# Altium schematic symbol library Resistors-potenciometers.SchLib: 402 symbols (part 1 of 5)
Pins are listed as number, name and electrical type; pins without a type are passive.

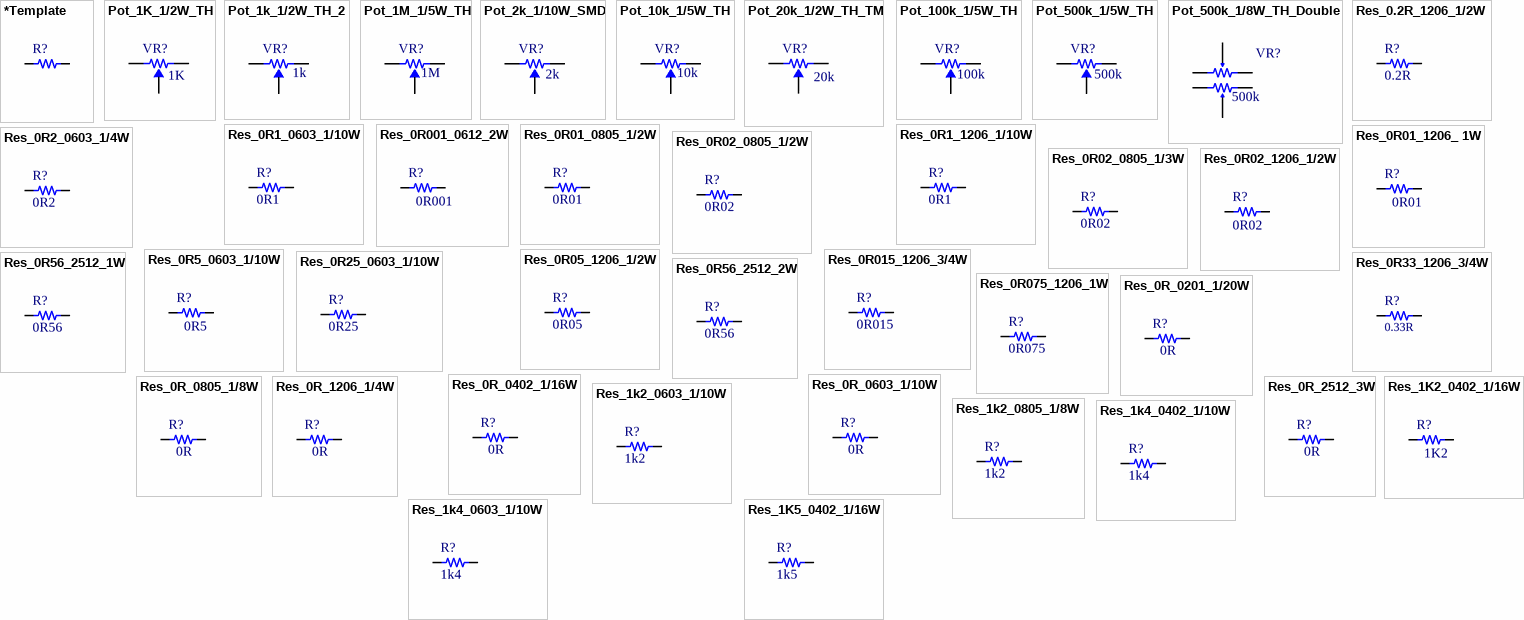
[diagram p0: symbols *Template to Res_1K5_0402_1/16W]

## *Template
designator R?
Reel Stock: N/A; Last modified by: J.Jaramillo; Last modified date: 20240310
pins: 1, 2

## Pot_1K_1/2W_TH
designator VR?, comment value 1K  (hidden comment: 1K 1/2W)
TRIMMER 1K OHM 0.5W PC PIN TOP; Manufacturer: Bourns Inc.; Manufacturer Part Number: 3296W-1-102LF; Supplier 1: Digi-Key; Supplier Part Number 1: 3296W-102LF-ND; Reel Stock: N/A; Last modified by: J.Jaramillo; Last modified date: 20240310; ComponentLink1Description: Digi-Key; ComponentLink1URL: https://www.digikey.com/en/products/detail/bourns-inc/3296W-1-102LF/1088044
footprint Pot_3x1_2.54mm_TH_TM (/20201120/C-A.Serna.A)
pins: 1 (power), 2, 3 (power)

## Pot_1k_1/2W_TH_2
designator VR?, comment value 1k  (hidden comment: 1k 1/2W)
TRIMMER 1K OHM 0.5W PC PIN TOP; Manufacturer: Nidec Copal Electronics; Manufacturer Part Number: CT6EW102; Supplier 1: Digi-Key; Supplier Part Number 1: CT6EW102-ND; Reel Stock: N/A; Last modified by: J.Jaramillo; Last modified date: 20240310; ComponentLink1Description: Digi-Key; ComponentLink1URL: https://www.digikey.com/en/products/detail/nidec-copal-electronics/CT6EW102/738333?s=N4IgTCBcDaIMIBUBsBRA6gRgAwQLoF8g
footprint POT_5X5MM_TH (20220330 / E.Naranjo)
pins: 1 (power), 2, 3 (power)

## Pot_1M_1/5W_TH
designator VR?, comment value 1M  (hidden comment: 1M 1/5W)
POT 1M OHM 1/5W PLASTIC LINEAR; Manufacturer: TT Electronics/BI; Manufacturer Part Number: P160KN-0QD15B1MEG; Reel Stock: N/A; Last modified by: J.Jaramillo; Last modified date: 20240310; ComponentLink1Description: Digi-key; ComponentLink1URL: https://www.digikey.com/products/en?keywords=P160KN-0QD15B1MEG; Supplier 1: Digi-Key; Supplier Part Number 1: 987-1667-ND
footprint Pot_3x1_5mm_TH (20190528/ V-A.Patino)
pins: 1 (power), 2, 3 (power)

## Pot_2k_1/10W_SMD
designator VR?, comment value 2k  (hidden comment: 2k 1/10W)
TRIMMER 2K OHM 0.1W J LEAD TOP; Manufacturer: Bourns Inc.; Manufacturer Part Number: TC33X-2-202E; Reel Stock: N/A; Last modified by: J.Jaramillo; Last modified date: 20240310; ComponentLink1Description: Digi-key; ComponentLink1URL: https://www.digikey.com/en/products/detail/bourns-inc/TC33X-2-202E/612860; Supplier 1: Digi-Key; Supplier Part Number 1: TC33X-202ECT-ND
footprint Pot_3.8x3.6x1.2MM_SMD (/20201126/C-D Viveros)
pins: 1 (power), 2, 3 (power)

## Pot_10k_1/5W_TH
designator VR?, comment value 10k  (hidden comment: 10k 1/5W)
POT 10K OHM 1/5W PLASTIC LINEAR; Manufacturer: TT Electronics/BI; Manufacturer Part Number: P160KN-0QC15B10K; Reel Stock: N/A; Last modified by: J.Jaramillo; Last modified date: 20240310; ComponentLink1Description: Digi-key; ComponentLink1URL: https://www.digikey.com/products/en?keywords=P160KN-0QC15B10K; Supplier 1: Digi-Key; Supplier Part Number 1: 987-1301-ND
footprint Pot_3x1_5mm_TH (20190327/ V-A.Patino)
pins: 1 (power), 2, 3 (power)

## Pot_20k_1/2W_TH_TM
designator VR?, comment value 20k  (hidden comment: 20k 1/2W)
TRIMMER 20K OHM 0.5W PC PIN TOP; Manufacturer: Bourns Inc.; Manufacturer Part Number: 3296W-1-203LF; Reel Stock: N/A; Last modified by: J.Jaramillo; Last modified date: 20240310; Supplier 1: Digi-Key; Supplier Part Number 1: 3296W-203LF-ND
footprint Pot_3x1_2.54mm_TH_TM
pins: 1 (power), 2, 3 (power)

## Pot_100k_1/5W_TH
designator VR?, comment value 100k  (hidden comment: 100k 1/5W)
POT 100K OHM 1/5W PLASTIC LINEAR; Manufacturer: TT Electronics/BI; Manufacturer Part Number: P160KN-0QC15B100K; Reel Stock: N/A; Last modified by: J.Jaramillo; Last modified date: 20240310; ComponentLink1Description: Digi-key; ComponentLink1URL: https://www.digikey.com/products/en?keywords=987-1300-ND; Supplier 1: Digi-Key; Supplier Part Number 1: 987-1300-ND
footprint Pot_3x1_5mm_TH (20190516/ V-A.Patino)
pins: 1 (power), 2, 3 (power)

## Pot_500k_1/5W_TH
designator VR?, comment value 500k  (hidden comment: 500k 1/5W)
POT 500K OHM 1/5W PLASTIC LINEAR; Manufacturer: TT Electronics/BI; Manufacturer Part Number: P160KN-0QC15B500K; Reel Stock: N/A; Last modified by: J.Jaramillo; Last modified date: 20240310; ComponentLink1Description: Digi-key; ComponentLink1URL: https://www.digikey.com/products/en?keywords=987-1304-ND; Supplier 1: Digi-Key; Supplier Part Number 1: 987-1304-ND
footprint Pot_3x1_5mm_TH (20190516/ V-A.Patino)
pins: 1 (power), 2, 3 (power)

## Pot_500k_1/8W_TH_Double
designator VR?, comment value 500k  (hidden comment: 500k 1/8W)
POT 500K OHM 1/8W CARBON LINEAR; Manufacturer: Bourns Inc.; Manufacturer Part Number: PDB182-K420K-504B; Supplier 1: Digi-Key; Supplier Part Number 1: PDB182-K420K-504B-ND; Reel Stock: N/A; Last modified by: J.Jaramillo; Last modified date: 20240310; ComponentLink1Description: Digi-Key; ComponentLink1URL: https://www.digikey.com/products/en?keywords=PDB182-K420K-504B
footprint POT_6X2_5mm_TH (20190617/ M-X.Arias)
pins: 1, 2, 3, 4, 5, 6

## Res_0.2R_1206_1/2W
designator R?, comment value 0.2R  (hidden comment: 0.2R 1/2W)
RES 0.2 OHM 0.5% 1/2W 1206; Manufacturer: Vishay Dale; Manufacturer Part Number: RCWE1206R200DKEA; Supplier 1: Digi-Key; Supplier Part Number 1: RCWE1206R200DKEA-ND; Reel Stock: N/A; Last modified by: J.Jaramillo; Last modified date: 20240310; ComponentLink1Description: Digi-Key; ComponentLink1URL: https://www.digikey.com/en/products/detail/vishay-dale/RCWE1206R200DKEA/5767266?s=N4IgjCBcpgbFoDGUBmBDANgZwKYBoQB7KAbRAA4BmAdjAAYQBdAgBwBcoQBlNgJwEsAdgHMQAXwIAmOuQCsCEMkjps%2BIqRDS6AAgC2AeQAWurE1YdIIAKqD%2BbfSgCyONFgCuvHOImaNn04xiQA
footprint 1206 (3216 metric/ 20190327/ V-A.Patino)
pins: 1, 2

## Res_0R1_0603_1/10W
designator R?, comment value 0R1  (hidden comment: 0.1R 1/10W)
RES 0.1 OHM 5% 1/10W 0603; Manufacturer: Panasonic Electronic Components; Manufacturer Part Number: ERJ-3RSJR10V; Supplier 1: Digi-key; Supplier Part Number 1: P.10AHCT-ND; Reel Stock: N/A; Last modified by: J.Jaramillo; Last modified date: 20240310; ComponentLink1Description: Digi-Key; ComponentLink1URL: https://www.digikey.com/en/products/detail/panasonic-electronic-components/ERJ-3RSJR10V/308026
footprint 0603 (1608 Metric / 20190222 / N-A.Potosi)
pins: 1, 2

## Res_0R001_0612_2W
designator R?, comment value 0R001  (hidden comment: 1mOhm  2W)
RES 0.001 OHM 2.0 W 1% 0612 SMD; Manufacturer: Vishay Dale; Manufacturer Part Number: WFCP06121L000FE66; Supplier 1: Digi-Key; Supplier Part Number 1: 541-WFCP06121L000FE66CT-ND; Reel Stock: N/A; Last modified by: J.Jaramillo; Last modified date: 20240310; ComponentLink1Description: Digi-Key; ComponentLink1URL: https://www.digikey.com/en/products/detail/vishay-dale/WFCP06121L000FE66/15908401
footprint 0612 (3216Metric / 20101029/ V-A.Patino)
pins: 1, 2

## Res_0R01_0805_1/2W
designator R?, comment value 0R01  (hidden comment: 0R01 1/2W)
RES 0.01 OHM 1% 1/2W 0805; Manufacturer: Bourns Inc.; Manufacturer Part Number: CFN0805-FX-R010ELF; Supplier 1: Digi-Key; Supplier Part Number 1: CFN0805-FX-R010ELFCT-ND; Reel Stock: N/A; Last modified by: J.Jaramillo; Last modified date: 20240310; ComponentLink1Description: Digi-Key; ComponentLink1URL: https://www.digikey.com/en/products/detail/bourns-inc/CFN0805-FX-R010ELF/10061123?s=N4IgTCBcDaIMIDEByAGAHCgrAWgQDWwCUUBGFAUQBkEQBdAXyA
footprint 0805 (2012 metric/ 20190327 / V-A.Patino)
pins: 1, 2

## Res_0R1_1206_1/10W
designator R?, comment value 0R1  (hidden comment: 0.1R 1/10W)
RES 0.1 OHM 1% 1W 1206; Manufacturer: Panasonic Electronic Components; Manufacturer Part Number: ERJ-8BWFR100V; Supplier 1: Digi-key; Supplier Part Number 1: P.10AUCT-ND; Reel Stock: N/A; Last modified by: J.Jaramillo; Last modified date: 20240310; ComponentLink1Description: Digi-Key; ComponentLink1URL: https://www.digikey.com/en/products/detail/panasonic-electronic-components/ERJ-8BWFR100V/1711656?s=N4IgTCBcDaIKICUBSAOAQgdQGIIIwAZ8A1EAXQF8g
footprint 1206 (3216 metric/ 20190327/ V-A.Patino)
pins: 1, 2

## Res_0R01_1206_ 1W
designator R?, comment 0R01
RES 10mΩ ±1% 1W 1206; Manufacturer: FOJAN; Manufacturer Part Number: FRM121WFR010TM; Supplier 1: LCSC; Supplier Part Number 1: C7467248; Reel Stock: N/A; Last modified by: J.Jaramillo; Last modified date: 070726; ComponentLink1Description: LCSC; ComponentLink1URL: https://www.lcsc.com/product-detail/C7467248.html?s_z=n_q_t_resistor%252010m&spm=wm.fly.bg.0.xh___wm.ssy.tc.4.tz&lcsc_vid=QlVWAwYAFgVeVVReQwReXlYDEQcLUgVSRQQLU1NREwMxVlNeRFVeVl1UR1NXUzsOAxUeFF5JWBYZEEoKFBINSQcJGk4eFQsCAgIaSgADAwAHC0slRVFbX1NeQ08GEwkK; ComponentLink2Description: Datasheet; ComponentLink2URL: https://www.lcsc.com/datasheet/C7467248.pdf?spm=wm.sxq.inf.ggs___wm.fly.bg.0.xh&lcsc_vid=QlVWAwYAFgVeVVReQwReXlYDEQcLUgVSRQQLU1NREwMxVlNeRFVeVl1UR1NXUzsOAxUeFF5JWBYZEEoKFBINSQcJGk4eFQsCAgIaSgADAwAHC0slRVFbX1NeQ08GEwkK; Value: 0R01
footprint 1206 (3216 metric/ 20190327/ V-A.Patino)
pins: 1, 2

## Res_0R2_0603_1/4W
designator R?, comment value 0R2  (hidden comment: 0R2 1/4W)
RES 0.2 OHM 1% 1/4W 0603; Manufacturer Part Number: UCR03EVPFLR200; Manufacturer: Rohm Semiconductor; ComponentLink1URL: https://www.digikey.com/en/products/detail/rohm-semiconductor/UCR03EVPFLR200/4053593?s=N4IgTCBcDaIEoAkCyBGMAWArAYQCoFoA5AERAF0BfIA; Reel Stock: N/A; Last modified by: J.Jaramillo; Last modified date: 20240310; ComponentLink1Description: Digi-key; Supplier Part Number 1: RHM1245CT-ND; Supplier 1: Digi-Key
footprint 0603
pins: 1, 2

## Res_0R02_0805_1/2W
designator R?, comment value 0R02  (hidden comment: 0R02 1/2W)
RES 0.02 OHM 5% 1/2W 0805; Manufacturer: Samsung Electro-Mechanics; Manufacturer Part Number: ERJ-6CWJR020V; Reel Stock: N/A; Last modified by: J.Jaramillo; Last modified date: 20240310; ComponentLink1Description: Digi-key; ComponentLink1URL: https://www.digikey.com/en/products/detail/panasonic-electronic-components/ERJ-6CWJR020V/6004298; Supplier 1: Digi-Key; Supplier Part Number 1: P19215CT-ND
footprint 0805
footprint 0805_M (2012 Metric / 20200129/ V-A.Patino)
pins: 1, 2

## Res_0R02_0805_1/3W
designator R?, comment value 0R02  (hidden comment: 0R02 1/3W)
RES 0.02 OHM 1% 1/3W 0805; Manufacturer: Samsung Electro-Mechanics; Manufacturer Part Number: RU2012FR020CS; Reel Stock: N/A; Last modified by: J.Jaramillo; Last modified date: 20240310; ComponentLink1Description: Digi-key; ComponentLink1URL: https://www.digikey.com/products/en?keywords=1276-6157-1-ND; Supplier 1: Digi-Key; Supplier Part Number 1: 1276-6157-1-ND
footprint 0805
footprint 0805_M (2012 Metric / 20200129/ V-A.Patino)
pins: 1, 2

## Res_0R02_1206_1/2W
designator R?, comment value 0R02  (hidden comment: 0R02 1/2W)
RES 20M OHM 1% 1/2W 1206; Manufacturer: Ohmite; Manufacturer Part Number: L4T12FR020FER; Supplier 1: Digi-Key; Supplier Part Number 1: 273-L4T12FR020FERCT-ND; Reel Stock: N/A; Last modified by: J.Jaramillo; Last modified date: 20240310; ComponentLink1Description: Digi-Key; ComponentLink1URL: https://www.digikey.com/en/products/detail/ohmite/L4T12FR020FER/10385197
footprint 1206 (3216 metric/ 20190327/ V-A.Patino)
pins: 1, 2

## Res_0R5_0603_1/10W
designator R?, comment value 0R5  (hidden comment: 0R5 1/10W)
500mΩ ±1% 100mW 0603 Thick Film Resistor; Manufacturer: UNI-ROYAL; Manufacturer Part Number: 0603WAF500LT5E; Supplier 1: LCSC; Supplier Part Number 1: C45312; Reel Stock: N/A; Last modified by: J.Jaramillo; Last modified date: 20240310; ComponentLink1Description: LCSC; ComponentLink1URL: https://www.lcsc.com/product-detail/C45312.html?s_z=n_Resistor%25200R5%25200603%25201%2525; ComponentLink2Description: Datasheet; ComponentLink2URL: https://www.lcsc.com/datasheet/C45312.pdf
footprint 0603 (1608 Metric / 20190222 / N-A.Potosi)
pins: 1, 2

## Res_0R05_1206_1/2W
designator R?, comment value 0R05  (hidden comment: 0R05 1/2W)
RES 0.05 OHM 1% 1/2W 1206; Manufacturer: Stackpole Electronics Inc; Manufacturer Part Number: CSR1206FT50L0; Reel Stock: N/A; Last modified by: J.Jaramillo; Last modified date: 20240310; ComponentLink1Description: Digi-key; ComponentLink1URL: https://www.digikey.com/products/en/resistors/chip-resistor-surface-mount/52?k=CSR1206FT50L0&k=&pkeyword=CSR1206FT50L0&sv=0&pv7=2&sf=0&quantity=&ColumnSort=0&page=1&pageSize=25; Supplier 1: Digi-Key; Supplier Part Number 1: CSR1206FT50L0CT-ND
footprint 1206 (3216 metric/ 20190327/ V-A.Patino)
pins: 1, 2

## Res_0R015_1206_3/4W
designator R?, comment value 0R015  (hidden comment: 0R015 3/4W)
RES 0.015 OHM 1% 3/4W 1206; Manufacturer: Susumu; Manufacturer Part Number: KRL1632E-M-R015-F-T5; Supplier 1: Digi-Key; Supplier Part Number 1: 408-1572-1-ND; Reel Stock: N/A; Last modified by: J.Jaramillo; Last modified date: 20240310; ComponentLink1Description: Digi-Key; ComponentLink1URL: https://www.digikey.com/en/products/detail/susumu/KRL1632E-M-R015-F-T5/3737998
footprint 1206 (3216 metric/ 20190327/ V-A.Patino)
pins: 1, 2

## Res_0R25_0603_1/10W
designator R?, comment value 0R25  (hidden comment: 0R25 1/10W)
RES 0.25 OHM 1% 1/10W 0603; Manufacturer Part Number: RL0603FR-070R25L; Manufacturer: Rohm Semiconductor; ComponentLink1URL: https://www.digikey.com/en/products/detail/yageo/RL0603FR-070R25L/5924891; Reel Stock: N/A; Last modified by: J.Jaramillo; Last modified date: 20240310; ComponentLink1Description: Digi-key; Supplier Part Number 1: 13-RL0603FR-070R25LCT-ND; Supplier 1: Digi-Key
footprint 0603
pins: 1, 2

## Res_0R33_1206_3/4W
designator R?, comment value 0.33R  (hidden comment: 0R33 3/4W)
RES 0.33 OHM 1% 3/4W 1206; Manufacturer: Susumu; Manufacturer Part Number: KRL1632E-M-R330-F-T5; Reel Stock: N/A; Last modified by: J.Jaramillo; Last modified date: 20240310; ComponentLink1Description: Digi-key; ComponentLink1URL: https://www.digikey.com/products/en?keywords=408-1588-1-ND; Supplier 1: Digi-Key; Supplier Part Number 1: 408-1588-1-ND
footprint 1206 (3216 metric/ 20190326/ V-A.Patino)
pins: 1, 2

## Res_0R56_2512_1W
designator R?, comment value 0R56  (hidden comment: 0R56 1W)
RES 0.56 OHM 1% 1W 2512; Manufacturer: TE Connectivity Passive Product; Manufacturer Part Number: RL73H3AR56FTE; Reel Stock: N/A; Last modified by: J.Jaramillo; Last modified date: 20240310; ComponentLink1Description: Digi-key; ComponentLink1URL: https://www.digikey.com/en/products/detail/te-connectivity-passive-product/RL73H3AR56FTE/5588307; Supplier 1: Digi-Key; Supplier Part Number 1: A138638CT-ND
footprint 2512 (6432 metric/ 20190613/ J-P.Vargas.A)
pins: 1, 2

## Res_0R56_2512_2W
designator R?, comment value 0R56  (hidden comment: 0R56 2W)
RES 0.56 OHM 1% 2W 2512; Manufacturer: TE Connectivity Passive Product; Manufacturer Part Number: RLP73K3AR56FTDF; Reel Stock: N/A; Last modified by: J.Jaramillo; Last modified date: 20240310; ComponentLink1Description: Digi-key; ComponentLink1URL: https://www.digikey.com/product-detail/en/te-connectivity-passive-product/RLP73K3AR56FTDF/A109712CT-ND/4032478; Supplier 1: Digi-Key; Supplier Part Number 1: A109712CT-ND
footprint 2512 (6432 metric/ 20190613/ J-P.Vargas.A)
pins: 1, 2

## Res_0R075_1206_1W
designator R?, comment value 0R075  (hidden comment: 0R075 1W)
RES 0.1 OHM 1% 1W 1206; Manufacturer: Panasonic Electronic Components; Manufacturer Part Number: ERJ-8BWFR100V; Supplier 1: Digi-Key; Supplier Part Number 1: P.10AUCT-ND; Reel Stock: N/A; Last modified by: J.Jaramillo; Last modified date: 20240310; ComponentLink1Description: Digi-Key; ComponentLink1URL: https://www.digikey.com/en/products/detail/panasonic-electronic-components/ERJ-8BWFR100V/1711656?s=N4IgTCBcDaIKICUBSAOAQgdQGIIIwAZ8A1EAXQF8g
footprint 1206 (3216 metric/ 20190327/ V-A.Patino)
pins: 1, 2

## Res_0R_0201_1/20W
designator R?, comment value 0R  (hidden comment: 0R 1/20W)
RES SMD 0 OHM JUMPER 1/20W 0201; Manufacturer: Yageo; Manufacturer Part Number: AC0201JR-070RL; Supplier 1: Digi-Key; Supplier Part Number 1: YAG3427CT-ND; Reel Stock: N/A; Last modified by: J.Jaramillo; Last modified date: 20240310; ComponentLink1Description: Digi-Key; ComponentLink1URL: https://www.digikey.com/en/products/detail/yageo/AC0201JR-070RL/5894880?s=N4IgTCBcDaIJoEEDiBmALGA7AYQCoFoA5AERAF0BfIA
footprint 0201 (20211214 / A-F.Romo)
pins: 1, 2

## Res_0R_0402_1/16W
designator R?, comment value 0R  (hidden comment: 0R 1/16W)
RES SMD 0 OHM JUMPER 1/16W 0402; Manufacturer: Samsung Electro-Mechanics; Manufacturer Part Number: RC1005J000CS; ComponentLink1URL: https://www.digikey.com/products/en?keywords=1276-3480-1-ND; Supplier 1: Digi-key; Supplier Part Number 1: 1276-3480-1-ND; Reel Stock: N/A; Last modified by: J.Jaramillo; Last modified date: 20240310; ComponentLink1Description: Digi-key
footprint 0402
footprint 0402_RF
pins: 1, 2

## Res_0R_0603_1/10W
designator R?, comment value 0R  (hidden comment: 0R 1/10W)
RES SMD 0 OHM JUMPER 1/10W 0603; Manufacturer: Panasonic Electronic Components; Manufacturer Part Number: ERJ-3GEY0R00V; ComponentLink1URL: https://www.digikey.com/products/en?keywords=P0.0GCT-ND; Supplier 1: Digi-Key; Supplier Part Number 1: P0.0GCT-ND; Reel Stock: N/A; Last modified by: J.Jaramillo; Last modified date: 20240310; ComponentLink1Description: Digi-key
footprint 0603 (1608 Metric / 20190222 / N-A.Potosi)
pins: 1, 2

## Res_0R_0805_1/8W
designator R?, comment value 0R  (hidden comment: 0R 1/8W)
RES 0 OHM JUMPER 1/8W 0805; Manufacturer: Yageo; Manufacturer Part Number: RC0805JR-070RL; Supplier 1: Digi-key; Supplier Part Number 1: 311-0.0ARCT-ND; Reel Stock: N/A; Last modified by: J.Jaramillo; Last modified date: 20240310; ComponentLink1Description: Digi-Key; ComponentLink1URL: https://www.digikey.com/product-detail/en/yageo/RC0805JR-070RL/311-0.0ARCT-ND/731163
footprint 0805 (2012 Metric / 20190221 / C-A.Serna.A)
footprint 0805_M (2012 Metric / 20200129/ V-A.Patino)
pins: 1, 2

## Res_0R_1206_1/4W
designator R?, comment value 0R  (hidden comment: 0R 1/4W)
RES SMD 0 OHM JUMPER 1/4W 1206; Manufacturer: Yageo; Manufacturer Part Number: RC1206JR-070RL; Reel Stock: N/A; Last modified by: J.Jaramillo; Last modified date: 20240310; ComponentLink1Description: Digi-key; ComponentLink1URL: https://www.digikey.com/products/en?keywords=311-0.0ERCT-ND; Supplier 1: Digi-Key; Supplier Part Number 1: 311-0.0ERCT-ND
footprint 1206 (3216 metric/ 20190326/ V-A.Patino)
pins: 1, 2

## Res_0R_2512_3W
designator R?, comment value 0R  (hidden comment: 0R 3W)
RES SMD 0 OHM JUMPER 3W 2512; Manufacturer: TE Connectivity Passive Product; Manufacturer Part Number: 3522ZR; Supplier 1: Digi-Key; Supplier Part Number 1: A121322CT-ND; Reel Stock: N/A; Last modified by: J.Jaramillo; Last modified date: 20240310; ComponentLink1Description: Digi-Key; ComponentLink1URL: https://www.digikey.com/product-detail/en/te-connectivity-passive-product/3522ZR/A121322CT-ND/5245379
footprint 2512 (6432 metric/ 20190613/ J-P.Vargas.A)
pins: 1, 2

## Res_1K2_0402_1/16W
designator R?, comment value 1K2  (hidden comment: 1K2 1/16W)
RES SMD 1K2 OHM 1% 1/16W 0402; Manufacturer: UNI-ROYAL(厚声); Manufacturer Part Number: 0402WGF1201TCE; Supplier 1: LCSC; Supplier Part Number 1: C25862; Reel Stock: N/A; Last modified by: J.Jaramillo; Last modified date: 20240310; ComponentLink1Description: Datasheet; ComponentLink1URL: https://atta.szlcsc.com/upload/public/pdf/source/20200306/C422600_1E6D84923E4A46A82E41ADD87F860B5C.pdf
footprint 0402 (1005 Metric / 20190222 / N-A.Potosi)
pins: 1, 2

## Res_1k2_0603_1/10W
designator R?, comment value 1k2  (hidden comment: 1k2 1/10W)
RES SMD 1.2K OHM 1% 1/10W 0603; Manufacturer: Bourns Inc.; Manufacturer Part Number: CR0603-FX-1201ELF; Supplier 1: Digi-Key; Supplier Part Number 1: 118-CR0603-FX-1201ELFCT-ND; Reel Stock: N/A; Last modified by: J.Jaramillo; Last modified date: 20240310; ComponentLink1Description: Digi-Key; ComponentLink1URL: https://www.digikey.com/product-detail/en/bourns-inc/CR0603-FX-1201ELF/118-CR0603-FX-1201ELFCT-ND/3925300
footprint 0603 (1608 Metric / 20190222 / N-A.Potosi)
pins: 1, 2

## Res_1k2_0805_1/8W
designator R?, comment value 1k2  (hidden comment: 1k2 1/8W)
RES SMD 1.2K OHM 1% 1/8W 0805; Manufacturer: TE Connectivity Passive Product; Manufacturer Part Number: CRG0805F1K2; Supplier 1: Digi-Key; Supplier Part Number 1: A126346CT-ND; Reel Stock: N/A; Last modified by: J.Jaramillo; Last modified date: 20240310; ComponentLink1Description: Digi-Key; ComponentLink1URL: https://www.digikey.com/product-detail/en/te-connectivity-passive-product/CRG0805F1K2/A126346CT-ND/7603401
footprint 0805 (2012 metric/ 20190327 / V-A.Patino)
footprint 0805_M (2012 Metric / 20200129/ V-A.Patino)
pins: 1, 2

## Res_1k4_0402_1/10W
designator R?, comment value 1k4  (hidden comment: 1k4 1/10W)
RES 1.4K OHM 1% 1/10W 0402; Manufacturer: KOA Speer Electronics, Inc.; Manufacturer Part Number: RK73H1ETTP1401F; ComponentLink1URL: https://www.digikey.com/product-detail/en/koa-speer-electronics-inc/RK73H1ETTP1401F/2019-RK73H1ETTP1401FCT-ND/9846425; Supplier 1: Digi-key; Supplier Part Number 1: 2019-RK73H1ETTP1401FCT-ND; Reel Stock: N/A; Last modified by: J.Jaramillo; Last modified date: 20240310; ComponentLink1Description: Digi-key
footprint 0402
footprint 0402_RF
footprint 0402_RF2 (1005 Metric / 20190222 / N-A.Potosi)
pins: 1, 2

## Res_1k4_0603_1/10W
designator R?, comment value 1k4  (hidden comment: 1.4K 1/10W)
RES SMD 1.4k OHM 1% 1/10W 0603; Manufacturer: Yageo; Manufacturer Part Number: RC0603FR-071K4L; Reel Stock: N/A; Last modified by: J.Jaramillo; Last modified date: 20240310; ComponentLink1Description: Digi-Key; ComponentLink1URL: https://www.digikey.com/en/products/detail/yageo/RC0603FR-071K4L/726861?s=N4IgTCBcDaIEoGEAMA2JBmAYnAtEg7AIwDSALADIgC6AvkA; Supplier 1: Digi-Key; Supplier Part Number 1: 311-1.40KHRCT-ND
footprint 0603
pins: 1, 2

## Res_1K5_0402_1/16W
designator R?, comment value 1k5  (hidden comment: 1k5 1/16W)
RES SMD 1.5K OHM 5% 1/16W 0402; Manufacturer: Yageo; Manufacturer Part Number: RC0402JR-071K5L; Supplier 1: Digi-Key; Supplier Part Number 1: 311-1.5KJRCT-ND; Reel Stock: N/A; Last modified by: J.Jaramillo; Last modified date: 20240310; ComponentLink1Description: Link; ComponentLink1URL: https://www.digikey.com/product-detail/en/yageo/RC0402JR-071K5L/311-1-5KJRCT-ND/729359
footprint 0402 (1005 Metric / 20190222 / N-A.Potosi)
footprint 0402_RF (1005 Metric / 20190222 / N-A.Potosi)
footprint 0402_RF2 (1005 Metric / 20190222 / N-A.Potosi)
pins: 1, 2

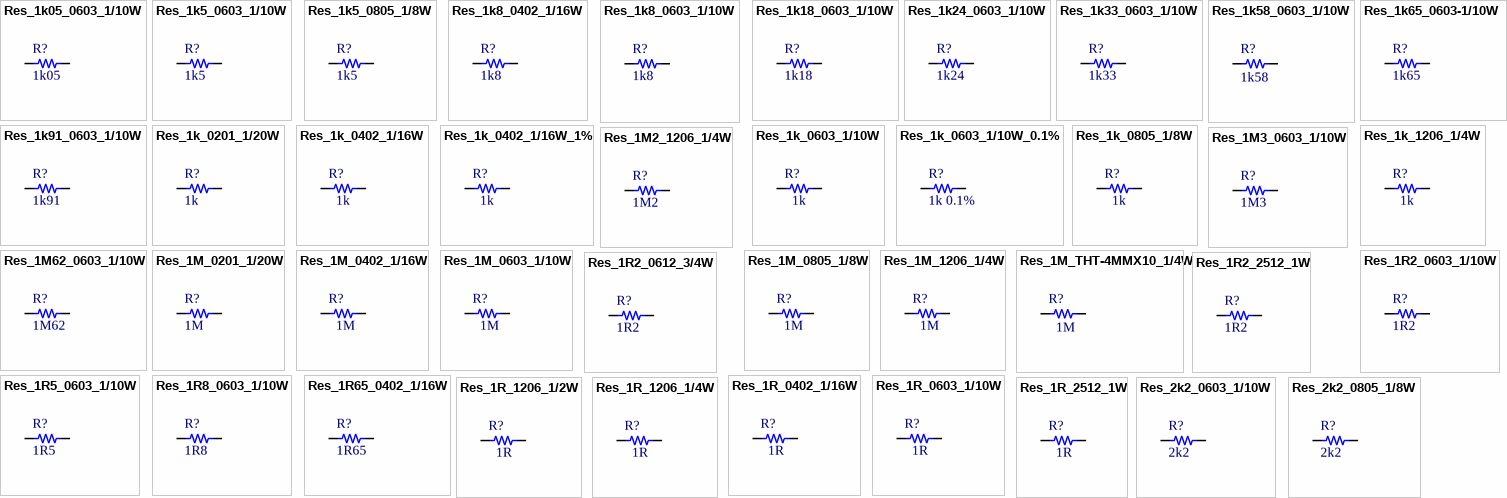
[diagram p1: symbols Res_1k05_0603_1/10W to Res_2k2_0805_1/8W]

## Res_1k05_0603_1/10W
designator R?, comment value 1k05  (hidden comment: 1k05 1/10W)
RES 1.05K OHM 1% 1/10W 0603; Manufacturer: Stackpole Electronics Inc; Manufacturer Part Number: RMCF0603FT1K05; Supplier 1: Digi-Key; Supplier Part Number 1: RMCF0603FT1K05CT-ND; Reel Stock: N/A; Last modified by: J.Jaramillo; Last modified date: 20240310; ComponentLink1Description: Digi-Key; ComponentLink1URL: https://www.digikey.com/en/products/detail/stackpole-electronics-inc/RMCF0603FT1K05/1761106
footprint 0603 (1608 Metric / 20190222 / N-A.Potosi)
pins: 1, 2

## Res_1k5_0603_1/10W
designator R?, comment value 1k5  (hidden comment: 1k5 1/10W)
RES SMD 1.5K OHM 1% 1/10W 0603; Manufacturer: Yageo; Manufacturer Part Number: RC0603FR-071K5L; Supplier 1: Digi-Key; Supplier Part Number 1: 311-1.50KHRCT-ND; Reel Stock: N/A; Last modified by: J.Jaramillo; Last modified date: 20240310; ComponentLink1Description: Digi-Key; ComponentLink1URL: https://www.digikey.com/product-detail/en/yageo/RC0603FR-071K5L/311-1.50KHRCT-ND/729811; Alternate: *
footprint 0603
pins: 1, 2

## Res_1k5_0805_1/8W
designator R?, comment value 1k5  (hidden comment: 1k5 1/8W)
RES SMD 1.5K OHM 1% 1/8W 0805; Manufacturer Part Number: RC0805FR-071K5L; Manufacturer: Yageo; Reel Stock: N/A; Last modified by: J.Jaramillo; Last modified date: 20240310; ComponentLink1Description: Digi-Key; ComponentLink1URL: https://www.digikey.com/product-detail/en/yageo/RC0805FR-071K5L/311-1.50KCRCT-ND/730443; Supplier 1: Digi-Key; Supplier Part Number 1: 311-1.50KCRCT-ND
footprint 0805 (2012 Metric / 20190221 / C-A.Serna.A)
footprint 0805_M (2012 Metric / 20200129/ V-A.Patino)
pins: 1, 2

## Res_1k8_0402_1/16W
designator R?, comment value 1k8  (hidden comment: 1k8 1/16W)
RES SMD 1.8K OHM 1% 1/16W 0402; Manufacturer: Yageo; Manufacturer Part Number: RT0402FRE071K8L; Supplier 1: Digikey; Supplier Part Number 1: 13-RT0402FRE071K8LCT-ND; Reel Stock: N/A; Last modified by: J.Jaramillo; Last modified date: 20240310; ComponentLink1Description: Digikey; ComponentLink1URL: https://www.digikey.com/en/products/detail/yageo/RT0402FRE071K8L/1071854
footprint 0402 (1005 Metric / 20190222 / N-A.Potosi)
footprint 0402_RF (1005 Metric / 20190222 / N-A.Potosi)
footprint 0402_RF2 (1005 Metric / 20190222 / N-A.Potosi)
pins: 1, 2

## Res_1k8_0603_1/10W
designator R?, comment value 1k8  (hidden comment: 1k8 1/10W)
RES 1.8K OHM 1% 1/10W 0603; Manufacturer: Stackpole Electronics Inc; Manufacturer Part Number: RMCF0603FT1K80; Supplier 1: Digi-Key; Supplier Part Number 1: RMCF0603FT1K80CT-ND; Reel Stock: N/A; Last modified by: J.Jaramillo; Last modified date: 20240310; ComponentLink1Description: Digi-Key; ComponentLink1URL: https://www.digikey.com/product-detail/en/stackpole-electronics-inc/RMCF0603FT1K80/RMCF0603FT1K80CT-ND/1943005
footprint 0603 (1608 Metric / 20190222 / N-A.Potosi)
pins: 1, 2

## Res_1k18_0603_1/10W
designator R?, comment value 1k18  (hidden comment: 1k18 /10W)
RES 1.18K OHM 1% 1/10W 0603; Manufacturer: YAGEO; Manufacturer Part Number: RC0603FR-071K18L; Supplier 1: Digi-Key; Supplier Part Number 1: 311-1.18KHRCT-ND; Reel Stock: N/A; Last modified by: J.Jaramillo; Last modified date: 20240310; ComponentLink1Description: Digi-Key; ComponentLink1URL: https://www.digikey.com/en/products/detail/yageo/RC0603FR-071K18L/726851
footprint 0603 (1608 Metric / 20190222 / N-A.Potosi)
pins: 1, 2

## Res_1k24_0603_1/10W
designator R?, comment value 1k24  (hidden comment: 1k24 1/10W)
RES SMD 1.24K OHM 1% 1/10W 0603; Manufacturer: Yageo; Manufacturer Part Number: RC0603FR-071K24L; Reel Stock: N/A; Last modified by: J.Jaramillo; Last modified date: 20240310; ComponentLink1Description: Digi-key; ComponentLink1URL: https://www.digikey.com/products/en?keywords=311-1.24KHRCT-ND; Supplier 1: Digi-Key; Supplier Part Number 1: 311-1.24KHRCT-ND
footprint 0603 (1608 Metric / 20190222 / N-A.Potosi)
pins: 1, 2

## Res_1k33_0603_1/10W
designator R?, comment value 1k33  (hidden comment: 1k33 1/10W)
RES SMD 1.33K OHM 1% 1/10W 0603; Manufacturer: Yageo; Manufacturer Part Number: RC0603FR-071K33L; Supplier 1: Digi-Key; Supplier Part Number 1: 311-1.33KHRCT-ND; Reel Stock: N/A; Last modified by: J.Jaramillo; Last modified date: 20240310; ComponentLink1Description: Digi-Key; ComponentLink1URL: https://www.digikey.com/product-detail/en/yageo/RC0603FR-071K33L/311-1-33KHRCT-ND/729806
footprint 0603 (1608 Metric / 20190222 / N-A.Potosi)
pins: 1, 2

## Res_1k58_0603_1/10W
designator R?, comment value 1k58  (hidden comment: 1k58 1/10W)
RES SMD 1.58K OHM 1% 1/10W 0603; Manufacturer: Yageo; Manufacturer Part Number: RC0603FR-071K58L; Reel Stock: N/A; Last modified by: J.Jaramillo; Last modified date: 20240310; ComponentLink1Description: Digi-key; ComponentLink1URL: https://www.digikey.com/products/en?keywords=311-1.58KHRCT-ND; Supplier 1: Digi-Key; Supplier Part Number 1: 311-1.58KHRCT-ND
footprint 0603 (1608 Metric / 20190222 / N-A.Potosi)
pins: 1, 2

## Res_1k65_0603-1/10W
designator R?, comment value 1k65  (hidden comment: 1k65 1/10W)
RES SMD 1.65K OHM 1% 1/10W 0603; Manufacturer: Yageo; Manufacturer Part Number: RC0603FR-071K65L; Supplier 1: Digi-Key; Supplier Part Number 1: 311-1.65KHRCT-ND; Reel Stock: N/A; Last modified by: J.Jaramillo; Last modified date: 20240310; ComponentLink1Description: Digi-Key; ComponentLink1URL: https://www.digikey.com/product-detail/en/yageo/RC0603FR-071K65L/311-1-65KHRCT-ND/729817
footprint 0603 (1608 Metric / 20190222 / N-A.Potosi)
pins: 1, 2

## Res_1k91_0603_1/10W
designator R?, comment value 1k91  (hidden comment: 1k91 1/10W)
RES SMD 1.91K OHM 1% 1/10W 0603; Manufacturer: Yageo; Manufacturer Part Number: RC0603FR-071K91L; Reel Stock: N/A; Last modified by: J.Jaramillo; Last modified date: 20240310; Supplier 1: Digi-Key; Supplier Part Number 1: 311-1.91KHRCT-ND; ComponentLink1Description: Digi-Key; ComponentLink1URL: https://www.digikey.com/product-detail/en/yageo/RC0603FR-071K91L/311-1.91KHRCT-ND/729824
footprint 0603 (1608 Metric / 20190222 / N-A.Potosi)
pins: 1, 2

## Res_1k_0201_1/20W
designator R?, comment value 1k  (hidden comment: 1k 1/20W)
RES 1K OHM 1% 1/20W 0201; Manufacturer: YAGEO; Manufacturer Part Number: RC0201FR-071KL; Supplier 1: Digi-Key; Supplier Part Number 1: 311-1KMCT-ND; Reel Stock: N/A; Last modified by: J.Jaramillo; Last modified date: 20240310; ComponentLink1Description: Digi-Key; ComponentLink1URL: https://www.digikey.com/en/products/detail/yageo/RC0201FR-071KL/3202389?s=N4IgTCBcDaIMwEYEFoEGkCyBhAKsgcgCIgC6AvkA
footprint 0201 (20211214 / A-F.Romo)
pins: 1, 2

## Res_1k_0402_1/16W
designator R?, comment value 1k  (hidden comment: 1k 1/16W)
RES SMD 1K OHM 0.5% 1/16W 0402; Manufacturer: Panasonic Electronic Components; Manufacturer Part Number: ERA-2AED102X; Supplier 1: Digi-Key; Supplier Part Number 1: P1.0KDECT-ND; Reel Stock: N/A; Last modified by: J.Jaramillo; Last modified date: 20240310; ComponentLink1Description: Digi-Key; ComponentLink1URL: https://www.digikey.com/en/products/detail/panasonic-electronic-components/ERA-2AED102X/1706102?s=N4IgTCBcDaIKICUCCBaMS4BECMAGMAGiALoC%2BQA
footprint 0402 (1005 Metric / 20190222 / N-A.Potosi)
footprint 0402_RF (1005 Metric / 20190222 / N-A.Potosi)
footprint 0402_RF2 (1005 Metric / 20190222 / N-A.Potosi)
pins: 1, 2

## Res_1k_0402_1/16W_1%
designator R?, comment value 1k  (hidden comment: 1k 1/16W)
RES SMD 1K OHM 1% 1/16W 0402; Manufacturer: Yageo; Manufacturer Part Number: RC0402FR-071KL; Supplier 1: Digi-Key; Supplier Part Number 1: 311-1.00KLRCT-ND; Reel Stock: N/A; Last modified by: J.Jaramillo; Last modified date: 20240310; ComponentLink1Description: Digi-Key; ComponentLink1URL: https://www.digikey.com/en/products/detail/yageo/RC0402FR-071KL/726513?s=N4IgTCBcDaIEoGEAMAWJYBicC0SDsAjANIAyIAugL5A
footprint 0402 (1005 Metric / 20190222 / N-A.Potosi)
footprint 0402_RF (1005 Metric / 20190222 / N-A.Potosi)
footprint 0402_RF2 (1005 Metric / 20190222 / N-A.Potosi)
pins: 1, 2

## Res_1k_0603_1/10W
designator R?, comment value 1k  (hidden comment: 1k 1/10W)
RES SMD 1K OHM 1% 1/10W 0603; Manufacturer: Yageo; Manufacturer Part Number: RC0603FR-071KL; Supplier 1: Digi-Key; Supplier Part Number 1: 311-1.00KHRCT-ND; Reel Stock: N/A; Last modified by: J.Jaramillo; Last modified date: 20240310; ComponentLink1Description: Digi-Key; ComponentLink1URL: https://www.digikey.com/product-detail/en/yageo/RC0603FR-071KL/311-1-00KHRCT-ND/729790
footprint 0603 (1608 Metric / 20190222 / N-A.Potosi)
pins: 1, 2

## Res_1k_0603_1/10W_0.1%
designator R?, comment value 1k 0.1%  (hidden comment: 1k 1/10W)
RES SMD 1K OHM 0.1% 1/10W 0603; Manufacturer: Panasonic Electronic Components; Manufacturer Part Number: ERA-3AEB102V; Supplier 1: Digi-Key; Supplier Part Number 1: P1.0KDBCT-ND; Reel Stock: N/A; Last modified by: J.Jaramillo; Last modified date: 20240310; ComponentLink1Description: Digi-Key; ComponentLink1URL: https://www.digikey.com/en/products/detail/panasonic-electronic-components/ERA-3AEB102V/1465854
footprint 0603 (1608 Metric / 20190222 / N-A.Potosi)
pins: 1, 2

## Res_1k_0805_1/8W
designator R?, comment value 1k  (hidden comment: 1k 1/8W)
RES SMD 1K OHM 1% 1/8W 0805; Manufacturer Part Number: RC0805FR-071KL; Manufacturer: Yageo; Reel Stock: N/A; Last modified by: J.Jaramillo; Last modified date: 20240310; ComponentLink1Description: Digi-Key; ComponentLink1URL: https://www.digikey.com/en/products/detail/yageo/RC0805FR-071KL/727444?s=N4IgTCBcDaIEoGEAMAOJBWAYnAtEg7AIwDSAMiALoC%2BQA; Supplier 1: Digi-Key; Supplier Part Number 1: 311-1.00KCRCT-ND
footprint 0805 (2012 Metric / 20190221 / C-A.Serna.A)
footprint 0805_M (2012 Metric / 20200129/ V-A.Patino)
pins: 1, 2

## Res_1k_1206_1/4W
designator R?, comment value 1k  (hidden comment: 1k 1/4W)
RES SMD 1K OHM 1% 1/4W 1206; Manufacturer: YAGEO; Manufacturer Part Number: RC1206FR-071KL; Supplier 1: Digi-Key; Supplier Part Number 1: 311-1.00KFRCT-ND; Reel Stock: N/A; Last modified by: J.Jaramillo; Last modified date: 20240310; ComponentLink1Description: Digi-Key; ComponentLink1URL: https://www.digikey.com/en/products/detail/yageo/RC1206FR-071KL/728387?s=N4IgTCBcDaIMwEYEFoEDoAMGDSAxASgMIAqyAcgCIgC6AvkA
footprint 1206 (3216 metric/ 20190327/ V-A.Patino)
pins: 1, 2

## Res_1M2_1206_1/4W
designator R?, comment value 1M2  (hidden comment: 1M2_1/4W)
RES 1.2M OHM 0.1% 1/4W 1206; Manufacturer: Susumu; Manufacturer Part Number: RG3216P-1204-B-T1; Supplier 1: Digy-Key; Supplier Part Number 1: 408-2029-1-ND; Reel Stock: N/A; Last modified by: J.Jaramillo; Last modified date: 20240310
footprint 1206 (3216 metric/ 20190327/ V-A.Patino)
pins: 1, 2

## Res_1M3_0603_1/10W
designator R?, comment value 1M3  (hidden comment: 1M3 1/10W)
RES SMD 1.3M OHM 1% 1/10W 0603; Manufacturer: Yageo; Manufacturer Part Number: RC0603FR-071M3L; Reel Stock: N/A; Last modified by: J.Jaramillo; Last modified date: 20240310; ComponentLink1Description: Digi-key; ComponentLink1URL: https://www.digikey.com/products/en?keywords=YAG3326CT-ND; Supplier 1: Digi-Key; Supplier Part Number 1: YAG3326CT-ND
footprint 0603 (1608 Metric / 20190222 / N-A.Potosi)
pins: 1, 2

## Res_1M62_0603_1/10W
designator R?, comment value 1M62  (hidden comment: 1M62 1/10W)
RES SMD 1.62M OHM 1% 1/10W 0603; Manufacturer: Vishay Dale; Manufacturer Part Number: CRCW06031M62FKEA; Reel Stock: N/A; Last modified by: J.Jaramillo; Last modified date: 20240310; ComponentLink1Description: Digi-key; ComponentLink1URL: https://www.digikey.com/product-detail/en/vishay-dale/CRCW06031M62FKEA/541-1-62MHCT-ND/1180174; Supplier 1: Digi-Key; Supplier Part Number 1: 541-1.62MHCT-ND
footprint 0603 (1608 Metric / 20190222 / N-A.Potosi)
pins: 1, 2

## Res_1M_0201_1/20W
designator R?, comment value 1M  (hidden comment: 1M 1/20W)
RES 1M OHM 5% 1/20W 0201; Manufacturer: Yageo; Manufacturer Part Number: RC0201JR-071ML; Supplier 1: Digi-Key; Supplier Part Number 1: 311-1MNCT-ND; Reel Stock: N/A; Last modified by: J.Jaramillo; Last modified date: 20240310; ComponentLink1Description: Digi-Key; ComponentLink1URL: https://www.digikey.com/en/products/detail/yageo/RC0201JR-071ML/1948923?s=N4IgTCBcDaIEoGEAMYkEYBScC0SDsaAsgDIgC6AvkA
footprint 0201 (20211214 / A-F.Romo)
pins: 1, 2

## Res_1M_0402_1/16W
designator R?, comment value 1M  (hidden comment: 1M 1/16W)
RES SMD 1M OHM 1% 1/16W 0402; Manufacturer: Yageo; Manufacturer Part Number: RC0402FR-071ML; Supplier 1: Digi-Key; Supplier Part Number 1: 311-1.00MLRCT-ND; Reel Stock: N/A; Last modified by: J.Jaramillo; Last modified date: 20240310; ComponentLink1Description: Digi-Key; ComponentLink1URL: https://www.digikey.com/product-detail/en/yageo/RC0402FR-071ML/311-1-00MLRCT-ND/729462
footprint 0402 (1005 Metric / 20190222 / N-A.Potosi)
footprint 0402_RF (1005 Metric / 20190222 / N-A.Potosi)
footprint 0402_RF2 (1005 Metric / 20190222 / N-A.Potosi)
pins: 1, 2

## Res_1M_0603_1/10W
designator R?, comment value 1M  (hidden comment: 1M 1/10W)
RES SMD 1M OHM 1% 1/10W 0603; Manufacturer: TE Connectivity Passive Product; Manufacturer Part Number: CRG0603F1M0; Supplier 1: Digi-Key; Supplier Part Number 1: A121559CT-ND; Reel Stock: N/A; Last modified by: J.Jaramillo; Last modified date: 20240310; ComponentLink1Description: Digi-Key; ComponentLink1URL: https://www.digikey.com/product-detail/en/te-connectivity-passive-product/CRG0603F1M0/A121559CT-ND/5246506
footprint 0603 (1608 Metric / 20190222 / N-A.Potosi)
pins: 1, 2

## Res_1M_0805_1/8W
designator R?, comment value 1M  (hidden comment: 1M 1/8W)
RES SMD 1M OHM 1% 1/8W 0805; Manufacturer Part Number: RC0805FR-071ML; Manufacturer: Yageo; Reel Stock: N/A; Last modified by: J.Jaramillo; Last modified date: 20240310; ComponentLink1Description: Digi-Key; ComponentLink1URL: https://www.digikey.com/product-detail/en/yageo/RC0805FR-071ML/311-1.00MCRCT-ND/730392; Supplier 1: Digi-Key; Supplier Part Number 1: 311-1.00MCRCT-ND
footprint 0805 (2012 metric/ 20190327 / V-A.Patino)
footprint 0805_M (2012 Metric / 20200129/ V-A.Patino)
pins: 1, 2

## Res_1M_1206_1/4W
designator R?, comment value 1M  (hidden comment: 1M 1/4W)
RES SMD 1M OHM 1% 1/4W 1206; Manufacturer: Yageo; Manufacturer Part Number: RC1206FR-071ML; Supplier 1: Digi-Key; Supplier Part Number 1: 311-1.00MFRCT-ND; Reel Stock: N/A; Last modified by: J.Jaramillo; Last modified date: 20240310; ComponentLink1Description: Digi-Key; ComponentLink1URL: https://www.digikey.com/product-detail/en/yageo/RC1206FR-071ML/311-1-00MFRCT-ND/731335
footprint 1206 (3216 metric/ 20190327/ V-A.Patino)
pins: 1, 2

## Res_1M_THT-4MMX10_1/4W
designator R?, comment value 1M  (hidden comment: 1M_1/4W)
/ RES 1M OHM 5% 1/4W AXIAL; Manufacturer: Stackpole Electronics Inc; Manufacturer Part Number: CF14JT1M00; Supplier 1: Digi-Key; Supplier Part Number 1: CF14JT1M00CT-ND; Reel Stock: N/A; Last modified by: S.Patiño; Last modified date: 20260925
footprint RES_AXIAL_1/4W_THT (/ 250926 / S.Patiño)
pins: 1, 2

## Res_1R2_0603_1/10W
designator R?, comment value 1R2  (hidden comment: 1R2 1/10W)
RES SMD 1.2 OHM 1% 1/10W 0603; Manufacturer: Panasonic Electronic Components; Manufacturer Part Number: ERJ-3RQF1R2V; Supplier 1: Digi-Key; Supplier Part Number 1: P1.2AJCT-ND; Reel Stock: N/A; Last modified by: J.Jaramillo; Last modified date: 20240310; ComponentLink1Description: Digi-Key; ComponentLink1URL: https://www.digikey.com/product-detail/en/panasonic-electronic-components/ERJ-3RQF1R2V/P1-2AJCT-ND/308111
footprint 0603 (1608 Metric / 20190222 / N-A.Potosi)
pins: 1, 2

## Res_1R2_0612_3/4W
designator R?, comment value 1R2  (hidden comment: 1R2 3/4W)
RES SMD 1.2 OHM 3/4W 1206 WIDE; Manufacturer: Vishay Dale; Manufacturer Part Number: RCL06121R20FKEA; Supplier 1: Digi-Key; Supplier Part Number 1: 541-2348-1-ND; Reel Stock: N/A; Last modified by: J.Jaramillo; Last modified date: 20240310; ComponentLink1Description: Digi-Key; ComponentLink1URL: https://www.digikey.com/en/products/detail/vishay-dale/RCL06121R20FKEA/2578356?s=N4IgTCBcDaIEoGEAyAGAbARjBuYUDEBpAUQEEQBdAXyA
footprint 0612 (3216Metric / 20101029/ V-A.Patino)
pins: 1, 2

## Res_1R2_2512_1W
designator R?, comment value 1R2  (hidden comment: 1R2 1W)
RES SMD 1.2 OHM 1% 1W 2512; Manufacturer: Vishay Dale; Manufacturer Part Number: CRCW25121R20FKEG; Supplier 1: Digi-Key; Supplier Part Number 1: 541-1.20AFCT-ND; Reel Stock: N/A; Last modified by: J.Jaramillo; Last modified date: 20240310; ComponentLink1Description: Digi-Key; ComponentLink1URL: https://www.digikey.com/product-detail/en/vishay-dale/CRCW25121R20FKEG/541-1.20AFCT-ND/3232037
footprint 2512 (6432 metric/ 20190613/ J-P.Vargas.A)
pins: 1, 2

## Res_1R5_0603_1/10W
designator R?, comment value 1R5  (hidden comment: 1R5 1/10W)
RES SMD 1.5 OHM 1% 1/10W 0603; Manufacturer: Panasonic Electronic Components; Manufacturer Part Number: ERJ-3RQF1R5V; Supplier 1: Digi-Key; Supplier Part Number 1: P1.5AJCT-ND; Reel Stock: N/A; Last modified by: J.Jaramillo; Last modified date: 20240310; ComponentLink1Description: Digi-Key; ComponentLink1URL: https://www.digikey.com/product-detail/en/panasonic-electronic-components/ERJ-3RQF1R5V/P1-5AJCT-ND/308112
footprint 0603 (1608 Metric / 20190222 / N-A.Potosi)
pins: 1, 2

## Res_1R8_0603_1/10W
designator R?, comment value 1R8  (hidden comment: 1R8 1/10W)
RES SMD 1.8 OHM 1% 1/10W 0603; Manufacturer: Vishay Dale; Manufacturer Part Number: CRCW06031R80FKEA; Supplier 1: Digi-Key; Supplier Part Number 1: 541-1.80HHCT-ND; Reel Stock: N/A; Last modified by: J.Jaramillo; Last modified date: 20240310; ComponentLink1Description: Digi-Key; ComponentLink1URL: https://www.digikey.com/product-detail/en/vishay-dale/CRCW06031R80FKEA/541-1-80HHCT-ND/1962024
footprint 0603 (1608 Metric / 20190222 / N-A.Potosi)
pins: 1, 2

## Res_1R65_0402_1/16W
designator R?, comment value 1R65  (hidden comment: 1R65 1/16W)
RES SMD 1.65 OHM 1% 1/16W 0402; Manufacturer: Vishay Dale; Manufacturer Part Number: CRCW04021R65FKED; Supplier 1: Digi-key; Supplier Part Number 1: 541-1.65LLCT-ND; Reel Stock: N/A; Last modified by: J.Jaramillo; Last modified date: 20240310; ComponentLink1Description: Digi-Key; ComponentLink1URL: https://www.digikey.com/en/products/detail/vishay-dale/CRCW04021R65FKED/1961446
footprint 0402
footprint 0402_RF
footprint 0402_RF2 (1005 Metric / 20190222 / N-A.Potosi)
pins: 1, 2

## Res_1R_0402_1/16W
designator R?, comment value 1R  (hidden comment: 1R 1/16W)
RES SMD 1 OHM 1% 1/16W 0402; Manufacturer: Yageo; Manufacturer Part Number: RC0402FR-071RL; Supplier 1: Digi-Key; Supplier Part Number 1: 311-1.00LRCT-ND; Reel Stock: N/A; Last modified by: J.Jaramillo; Last modified date: 20240310; ComponentLink1Description: Digi-Key; ComponentLink1URL: https://www.digikey.com/product-detail/en/yageo/RC0402FR-071RL/311-1.00LRCT-ND/729461
footprint 0402 (1005 Metric / 20190222 / N-A.Potosi)
footprint 0402_RF (1005 Metric / 20190222 / N-A.Potosi)
pins: 1, 2

## Res_1R_0603_1/10W
designator R?, comment value 1R  (hidden comment: 1R 1/10W)
RES 1 OHM 1% 1/10W 0603; Manufacturer: Yageo; Manufacturer Part Number: RC0603FR-071RL; Supplier 1: Digi-Key; Supplier Part Number 1: 311-1.00HRCT-ND; Reel Stock: N/A; Last modified by: J.Jaramillo; Last modified date: 20240310; ComponentLink1Description: Digi-Key; ComponentLink1URL: https://www.digikey.com/product-detail/en/yageo/RC0603FR-071RL/311-1.00HRCT-ND/729789
footprint 0603
pins: 1, 2

## Res_1R_1206_1/2W
designator R?, comment value 1R  (hidden comment: 1R 1/2W)
RES 1 OHM 5% 1/2W 1206; Manufacturer: YAGEO; Manufacturer Part Number: SR1206JR-7W1RL; Supplier 1: Digi-Key; Supplier Part Number 1: YAG6062CT-ND; Reel Stock: N/A; Last modified by: J.Jaramillo; Last modified date: 20240310; ComponentLink1Description: Digi-Key; ComponentLink1URL: https://www.digikey.com/en/products/detail/yageo/SR1206JR-7W1RL/5949345?s=N4IgjCBcoExaBjKAzAhgGwM4FMA0IB7KAbRBgA4A2cuAXXwAcAXKEAZSYCcBLAOwHMQAX3wBmeCCSQ0WPIRJkArAAZx9EM1YceA4fgAslCVJk58RSKTDLqdRi0jsufQSPAwAnBGiSUGM-KWIOSiAOzK5CDqmo7aLnrgKsrGfrLmCoqKYBDRDk46rvhgHuQeKdL%2BchakyblazrpuMBGK5aZVCmAABADyABYAtphR9qwAqrzcTD3IALLYqJgArpzYCQC03oipAdXgakKHQA
footprint 1206 (3216 metric/ 20190327/ V-A.Patino)
pins: 1, 2

## Res_1R_1206_1/4W
designator R?, comment value 1R  (hidden comment: 1R 1/4W)
RES SMD 1 OHM 5% 1/4W 1206; Manufacturer: Yageo; Manufacturer Part Number: RC1206JR-071RL; Supplier 1: Digi-Key; Supplier Part Number 1: 311-1.0ERCT-ND; Reel Stock: N/A; Last modified by: J.Jaramillo; Last modified date: 20240310; ComponentLink1Description: Digi-Key; ComponentLink1URL: https://www.digikey.com/product-detail/en/yageo/RC1206JR-071RL/311-1.0ERCT-ND/732132
footprint 1206 (3216 Metric / 20190712 / C-A.Serna.A)
pins: 1, 2

## Res_1R_2512_1W
designator R?, comment value 1R  (hidden comment: 1R 1W)
RES SMD 1 OHM 1% 1W 2512; Manufacturer Part Number: RC2512FK-071RL; Manufacturer: Yageo; Reel Stock: N/A; Last modified by: J.Jaramillo; Last modified date: 20240310; ComponentLink1Description: Digi-Key; ComponentLink1URL: https://www.digikey.com/product-detail/en/yageo/RC2512FK-071RL/YAG3391CT-ND/5962213; Supplier 1: Digi-Key; Supplier Part Number 1: YAG3391CT-ND
footprint 2512 (6432 metric/ 20190613/ J-P.Vargas.A)
pins: 1, 2

## Res_2k2_0603_1/10W
designator R?, comment value 2k2  (hidden comment: 2k2 1/10W)
RES SMD 2.2K OHM 1% 1/10W 0603; Manufacturer: Yageo; Manufacturer Part Number: RC0603FR-072K2L; Reel Stock: N/A; Last modified by: J.Jaramillo; Last modified date: 20240310; ComponentLink1Description: Digi-Key; ComponentLink1URL: https://www.digikey.com/en/products/detail/yageo/RC0603FR-072K2L/727016?s=N4IgTCBcDaIEoGEAMA2JBmAYnAtEg7GANJgAyIAugL5A; Supplier 1: Digi-Key; Supplier Part Number 1: 311-2.20KHRCT-ND
footprint 0603
pins: 1, 2

## Res_2k2_0805_1/8W
designator R?, comment value 2k2  (hidden comment: 2k2 1/8W)
RES SMD 2.2K OHM 1% 1/8W 0805; Manufacturer Part Number: RC0805FR-072K2L; Manufacturer: Yageo; Reel Stock: N/A; Last modified by: J.Jaramillo; Last modified date: 20240310; ComponentLink1Description: Digi-Key; ComponentLink1URL: https://www.digikey.com/product-detail/en/yageo/RC0805FR-072K2L/311-2.20KCRCT-ND/730623; Supplier 1: Digi-Key; Supplier Part Number 1: 311-2.20KCRCT-ND
footprint 0805 (2012 metric/ 20190327 / V-A.Patino)
footprint 0805_M (2012 Metric / 20200129/ V-A.Patino)
pins: 1, 2

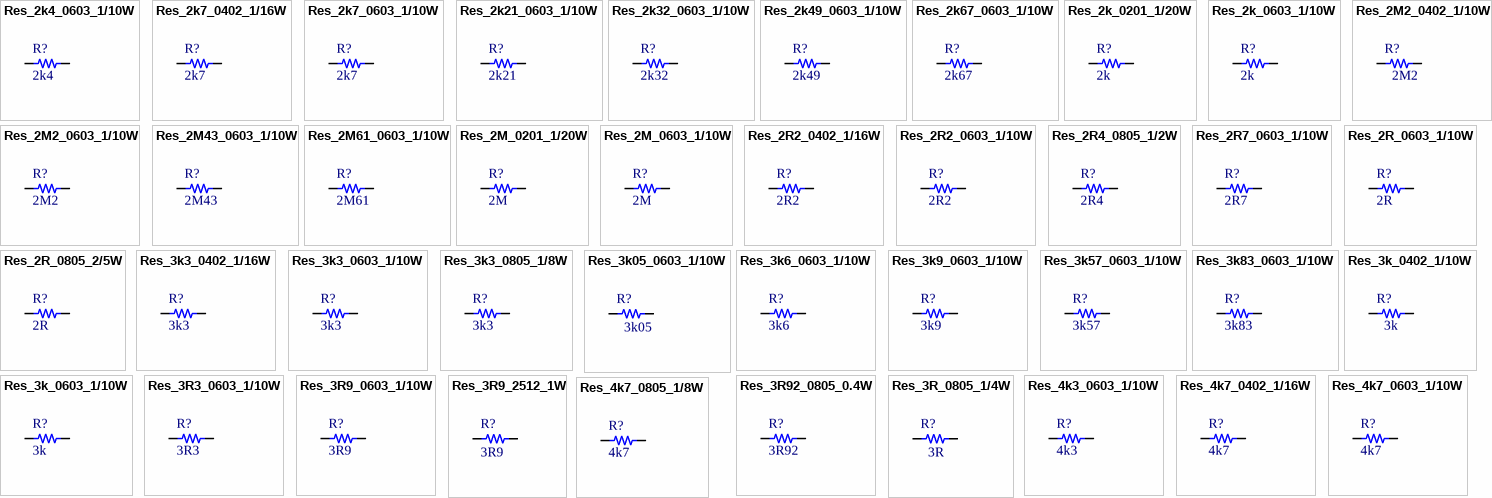
[diagram p2: symbols Res_2k4_0603_1/10W to Res_4k7_0805_1/8W]

## Res_2k4_0603_1/10W
designator R?, comment value 2k4  (hidden comment: 2k4 1/10W)
RES 2.4 OHM 1% 1/10W 0603; Manufacturer: Stackpole Electronics Inc; Manufacturer Part Number: RMCF0603FT2R40; Supplier 1: Digi-Key; Supplier Part Number 1: RMCF0603FT2R40CT-ND; Reel Stock: N/A; Last modified by: J.Jaramillo; Last modified date: 20240310; ComponentLink1Description: Digi-Key; ComponentLink1URL: https://www.digikey.com/en/products/detail/stackpole-electronics-inc/RMCF0603FT2R40/1713729
footprint 0603 (1608 Metric / 20190222 / N-A.Potosi)
pins: 1, 2

## Res_2k7_0402_1/16W
designator R?, comment value 2k7  (hidden comment: 2k7 1/16W)
CRGCQ 0402 2K7 1%; Manufacturer: TE Connectivity Passive Product; Manufacturer Part Number: CRGCQ0402F2K7; Reel Stock: N/A; Last modified by: J.Jaramillo; Last modified date: 20240310; Supplier Part Number 1: A129632CT-ND; Supplier 1: Digi-Key; ComponentLink1Description: Digi-Key; ComponentLink1URL: https://www.digikey.com/product-detail/en/te-connectivity-passive-product/CRGCQ0402F2K7/A129632CT-ND/8577464
footprint 0402
footprint 0402_RF
footprint 0402_RF2 (1005 Metric / 20190222 / N-A.Potosi)
pins: 1, 2

## Res_2k7_0603_1/10W
designator R?, comment value 2k7  (hidden comment: 2k7 1/10W)
RES SMD 2.7K OHM 1% 1/10W 0603; Manufacturer Part Number: RC0603FR-072K7L; Manufacturer: Yageo; Reel Stock: N/A; Last modified by: J.Jaramillo; Last modified date: 20240310; ComponentLink1Description: Digi-Key; ComponentLink1URL: https://www.digikey.com/en/products/detail/yageo/RC0603FR-072K7L/727032?s=N4IgTCBcDaIEoGEAMA2JBmAYnAtEg7GANL4AyIAugL5A; Supplier 1: Digi-Key; Supplier Part Number 1: 311-2.70KHRCT-ND
footprint 0603
pins: 1, 2

## Res_2k21_0603_1/10W
designator R?, comment value 2k21  (hidden comment: 2k21 1/10W)
RES SMD 2.21K OHM 1% 1/10W 0603; Manufacturer: Panasonic Electronic Components; Manufacturer Part Number: ERJ3EKF2211V; Reel Stock: N/A; Last modified by: J.Jaramillo; Last modified date: 20240310; ComponentLink1Description: Digi-key; ComponentLink1URL: https://www.digikey.com/product-detail/en/panasonic-electronic-components/ERJ-3EKF2211V/P2.21KHCT-ND/198223; Supplier 1: Digi-Key; Supplier Part Number 1: P2.21KHCT-ND
footprint 0603 (1608 Metric / 20190222 / N-A.Potosi)
pins: 1, 2

## Res_2k32_0603_1/10W
designator R?, comment value 2k32  (hidden comment: 2k32 1/10W)
RES SMD 2.32K OHM 1% 1/10W 0603; Manufacturer: Yageo; Manufacturer Part Number: RC0603FR-072K32L; Supplier 1: Digi-Key; Supplier Part Number 1: 311-2.32KHRCT-ND; Reel Stock: N/A; Last modified by: J.Jaramillo; Last modified date: 20240310; ComponentLink1Description: Digi-Key; ComponentLink1URL: https://www.digikey.com/product-detail/en/yageo/RC0603FR-072K32L/311-2-32KHRCT-ND/729968
footprint 0603 (1608 Metric / 20190222 / N-A.Potosi)
pins: 1, 2

## Res_2k49_0603_1/10W
designator R?, comment value 2k49  (hidden comment: 2k49 1/10W)
RES 2.49K OHM 1% 1/10W 0603; Manufacturer: YAGEO; Manufacturer Part Number: RC0603FR-072K49L; Supplier 1: Digi-Key; Supplier Part Number 1: 311-2.49KHRCT-ND; Reel Stock: N/A; Last modified by: J.Jaramillo; Last modified date: 20240310; ComponentLink1Description: Digi-Key; ComponentLink1URL: https://www.digikey.com/en/products/detail/yageo/RC0603FR-072K49L/727027
footprint 0603 (1608 Metric / 20190222 / N-A.Potosi)
pins: 1, 2

## Res_2k67_0603_1/10W
designator R?, comment value 2k67  (hidden comment: 2k67 1/10W)
RES 2.67K OHM 1% 1/10W 0603; Manufacturer Part Number: RC0603FR-072K67L; Manufacturer: Yageo; Reel Stock: N/A; Last modified by: J.Jaramillo; Last modified date: 20240310; ComponentLink1Description: Digi-Key; ComponentLink1URL: https://www.digikey.com/en/products/detail/yageo/RC0603FR-072K67L/727031; Supplier 1: Digi-Key; Supplier Part Number 1: 311-2.67KHRCT-ND
footprint 0603
pins: 1, 2

## Res_2k_0201_1/20W
designator R?, comment value 2k  (hidden comment: 2k 1/20W)
RES SMD 2K OHM 1% 1/20W 0201; Manufacturer: Vishay Dale; Manufacturer Part Number: CRCW02012K00FNED; Supplier 1: Digi-Key; Supplier Part Number 1: 541-2.00KABCT-ND; Reel Stock: N/A; Last modified by: J.Jaramillo; Last modified date: 20240310; ComponentLink1Description: Digi-Key; ComponentLink1URL: https://www.digikey.com/en/products/detail/vishay-dale/CRCW02012K00FNED/1199840?s=N4IgTCBcDaIKwBYCMBaMA6ADJg0gQQCEBhAFRQDkAREAXQF8g
footprint 0201 (20211214 / A-F.Romo)
pins: 1, 2

## Res_2k_0603_1/10W
designator R?, comment value 2k  (hidden comment: 2k 1/10W)
RES SMD 2K OHM 1% 1/10W 0603; Manufacturer: Yageo; Manufacturer Part Number: RC0603FR-072KL; Supplier 1: Digikey; Supplier Part Number 1: 311-2.00KHRCT-ND; Reel Stock: N/A; Last modified by: J.Jaramillo; Last modified date: 20240310; ComponentLink1Description: Digikey; ComponentLink1URL: https://www.digikey.com/en/products/detail/yageo/RC0603FR-072KL/727009?s=N4IgTCBcDaIMwEYEFowDoAMGDSAJASgMIAqyAcgCIgC6AvkA
footprint 0603 (1608 Metric / 20190222 / N-A.Potosi)
pins: 1, 2

## Res_2M2_0402_1/10W
designator R?, comment value 2M2  (hidden comment: 2M2 1/10W)
RES 2.2M OHM 1% 1/10W 0402; Manufacturer: KOA Speer Electronics, Inc.; Manufacturer Part Number: RK73H1ETTP2204F; ComponentLink1URL: https://www.digikey.com/en/products/detail/koa-speer-electronics-inc/RK73H1ETTP2204F/9844242; Supplier 1: Digi-key; Supplier Part Number 1: 2019-RK73H1ETTP2204FCT-ND; Reel Stock: N/A; Last modified by: J.Jaramillo; Last modified date: 20240310; ComponentLink1Description: Digi-key
footprint 0402
footprint 0402_RF
pins: 1, 2